# Altium integrated library micro-siemens.IntLib: 88 symbols (part 3 of 3)
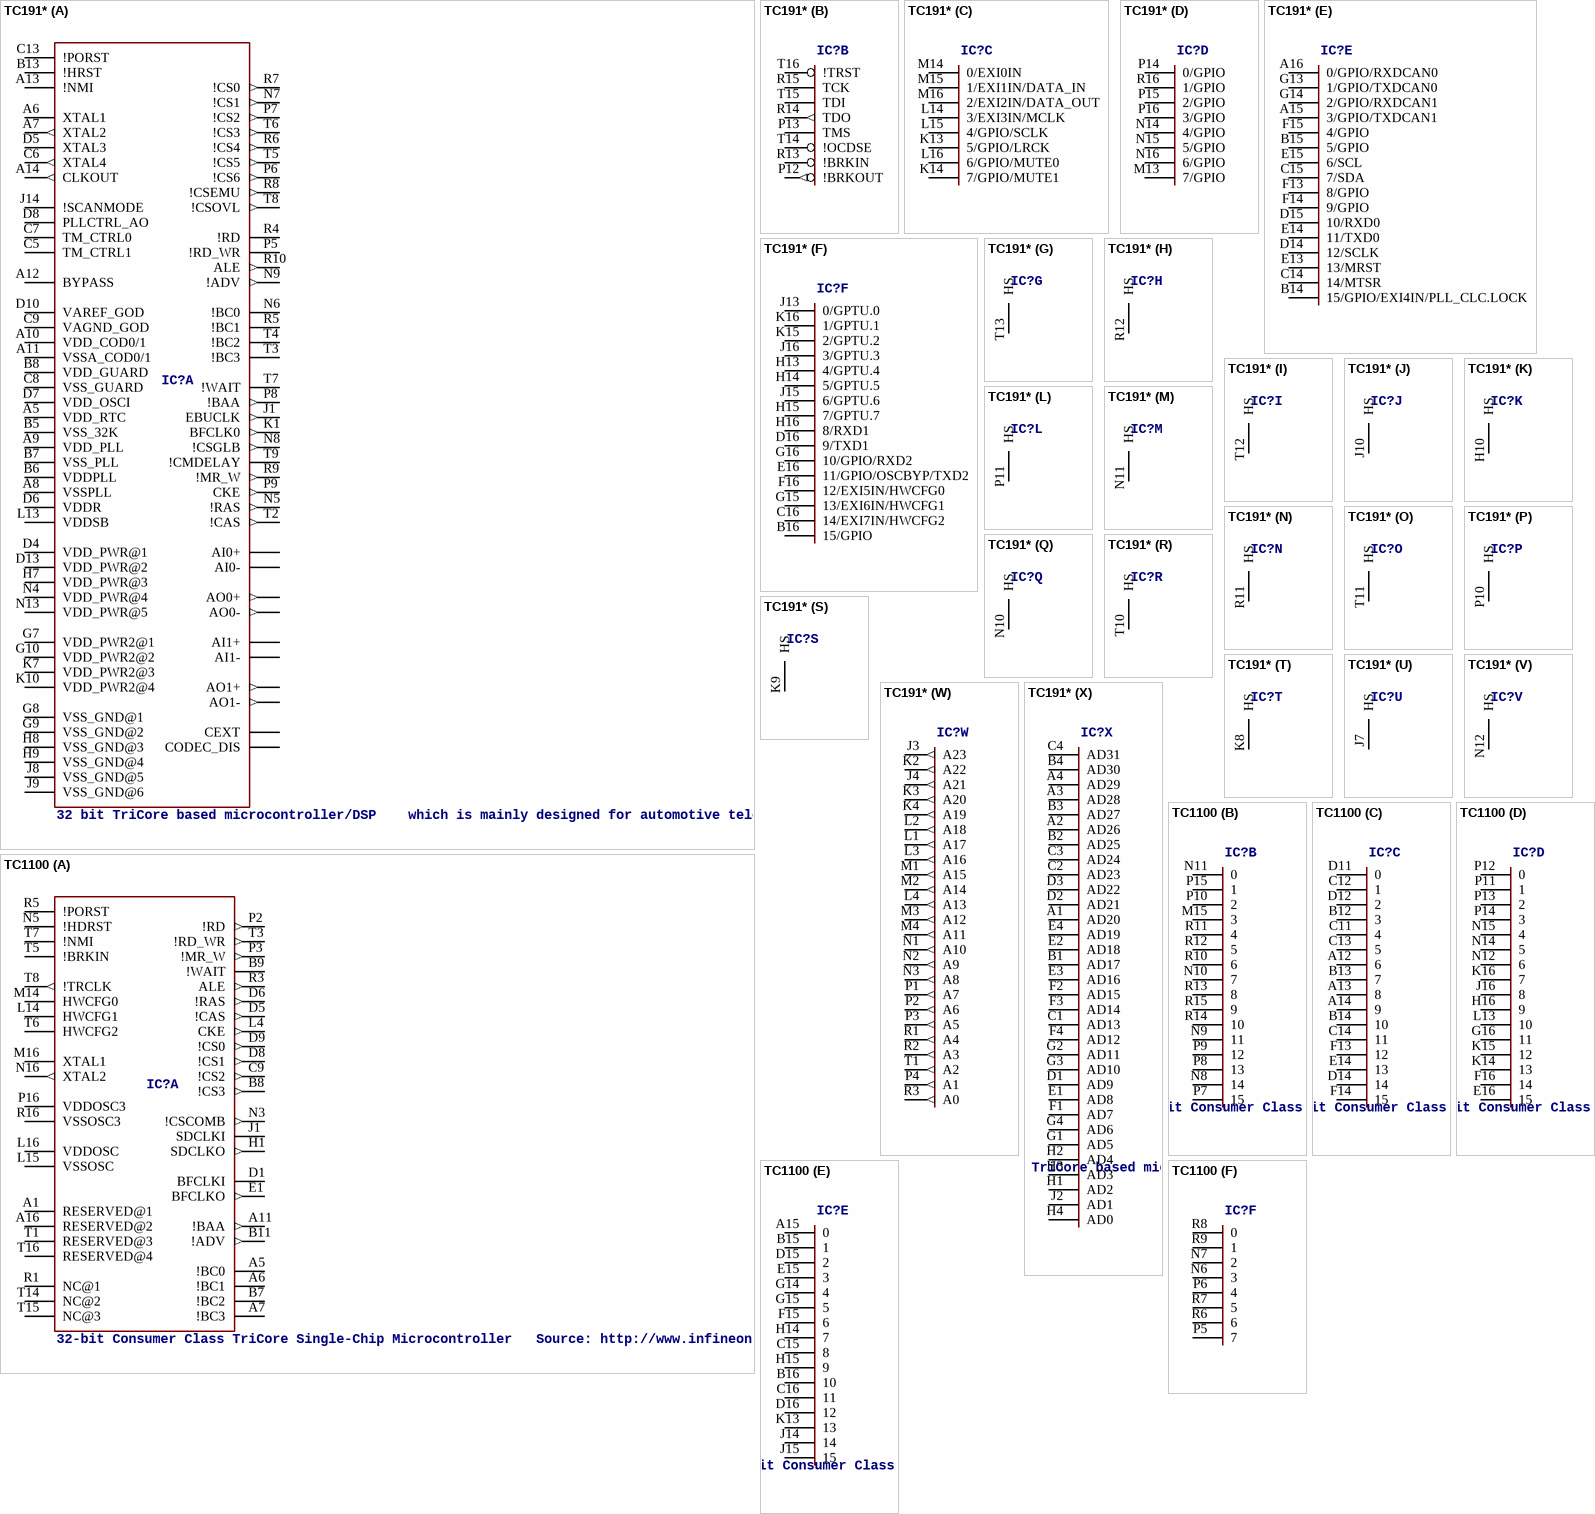
[diagram p31: symbols TC191* to TC1100]

## TC191*
designator IC?, comment 32 bit TriCore based microcontroller/DSP    which is mainly designed for automotive telematics applications. Source: http://www.infineon.com .. TC1910_DS_V1.0.pdf / TC1912_DS_V1.0.pdf
OC_FARNELL: unknown; OC_NEWARK: unknown
footprint P-LBGA-208-2
part A pins: A5 VDD_RTC, A6 XTAL1, A7 XTAL2 (out), A8 VSSPLL, A9 VDD_PLL, A10 VDD_COD0/1, A11 VSSA_COD0/1, A12 BYPASS, A13 !NMI, A14 CLKOUT (out), B5 VSS_32K, B6 VDDPLL, B7 VSS_PLL, B8 VDD_GUARD, B9 AI0-, B10 AI1-, B11 AO1+ (out), B12 AO0- (out), B13 !HRST, C5 TM_CTRL1, C6 XTAL4 (out), C7 TM_CTRL0, C8 VSS_GUARD, C9 VAGND_GOD, C10 AI1+, C11 AO0+ (out), C12 CODEC_DIS, C13 !PORST, D4 VDD_PWR@1, D5 XTAL3, D6 VDDR, D7 VDD_OSCI, D8 PLLCTRL_AO, D9 AI0+, D10 VAREF_GOD, D11 AO1- (out), D12 CEXT, D13 VDD_PWR@2, G7 VDD_PWR2@1, G8 VSS_GND@1, G9 VSS_GND@2, G10 VDD_PWR2@2, H7 VDD_PWR@3, H8 VSS_GND@3, H9 VSS_GND@4, J1 EBUCLK (out), J8 VSS_GND@5, J9 VSS_GND@6, J14 !SCANMODE, K1 BFCLK0 (out), K7 VDD_PWR2@3, K10 VDD_PWR2@4, L13 VDDSB, N4 VDD_PWR@4, N5 !RAS (out), N6 !BC0, N7 !CS1 (out), N8 !CSGLB (out), N9 !ADV (out), N13 VDD_PWR@5, P5 !RD_WR, P6 !CS6 (out), P7 !CS2 (out), P8 !BAA (out), P9 CKE (out), R4 !RD, R5 !BC1, R6 !CS4 (out), R7 !CS0 (out), R8 !CSEMU (out), R9 !MR_W (out), R10 ALE (out), T2 !CAS (out), T3 !BC3, T4 !BC2, T5 !CS5 (out), T6 !CS3 (out), T7 !WAIT, T8 !CSOVL (out), T9 !CMDELAY
part B pins: P12 !BRKOUT (out), P13 TMS, R13 !BRKIN, R14 TDO (out), R15 TCK, T14 !OCDSE, T15 TDI, T16 !TRST
part C pins: K13 5/GPIO/LRCK, K14 7/GPIO/MUTE1, L14 3/EXI3IN/MCLK, L15 4/GPIO/SCLK, L16 6/GPIO/MUTE0, M14 0/EXI0IN, M15 1/EXI1IN/DATA_IN, M16 2/EXI2IN/DATA_OUT
part D pins: M13 7/GPIO, N14 4/GPIO, N15 5/GPIO, N16 6/GPIO, P14 0/GPIO, P15 2/GPIO, P16 3/GPIO, R16 1/GPIO
part E pins: A15 3/GPIO/TXDCAN1, A16 0/GPIO/RXDCAN0, B14 15/GPIO/EXI4IN/PLL_CLC.LOCK, B15 5/GPIO, C14 14/MTSR, C15 7/SDA, D14 12/SCLK, D15 10/RXD0, E13 13/MRST, E14 11/TXD0, E15 6/SCL, F13 8/GPIO, F14 9/GPIO, F15 4/GPIO, G13 1/GPIO/TXDCAN0, G14 2/GPIO/RXDCAN1
part F pins: B16 15/GPIO, C16 14/EXI7IN/HWCFG2, D16 9/TXD1, E16 11/GPIO/OSCBYP/TXD2, F16 12/EXI5IN/HWCFG0, G15 13/EXI6IN/HWCFG1, G16 10/GPIO/RXD2, H13 4/GPTU.4, H14 5/GPTU.5, H15 7/GPTU.7, H16 8/RXD1, J13 0/GPTU.0, J15 6/GPTU.6, J16 3/GPTU.3, K15 2/GPTU.2, K16 1/GPTU.1
part G pins: T13 HS
part H pins: R12 HS
part I pins: T12 HS
part J pins: J10 HS
part K pins: H10 HS
part L pins: P11 HS
part M pins: N11 HS
part N pins: R11 HS
part O pins: T11 HS
part P pins: P10 HS
part Q pins: N10 HS
part R pins: T10 HS
part S pins: K9 HS
part T pins: K8 HS
part U pins: J7 HS
part V pins: N12 HS
part W pins: J3 A23 (out), J4 A21 (out), K2 A22 (out), K3 A20 (out), K4 A19 (out), L1 A17 (out), L2 A18 (out), L3 A16 (out), L4 A13 (out), M1 A15 (out), M2 A14 (out), M3 A12 (out), M4 A11 (out), N1 A10 (out), N2 A9 (out), N3 A8 (out), P1 A7 (out), P2 A6 (out), P3 A5 (out), P4 A1 (out), R1 A4 (out), R2 A3 (out), R3 A0 (out), T1 A2 (out)
part X pins: A1 AD20, A2 AD26, A3 AD28, A4 AD29, B1 AD17, B2 AD25, B3 AD27, B4 AD30, C1 AD13, C2 AD23, C3 AD24, C4 AD31, D1 AD9, D2 AD21, D3 AD22, E1 AD8, E2 AD18, E3 AD16, E4 AD19, F1 AD7, F2 AD15, F3 AD14, F4 AD12, G1 AD5, G2 AD11, G3 AD10, G4 AD6, H1 AD2, H2 AD4, H3 AD3, H4 AD0, J2 AD1

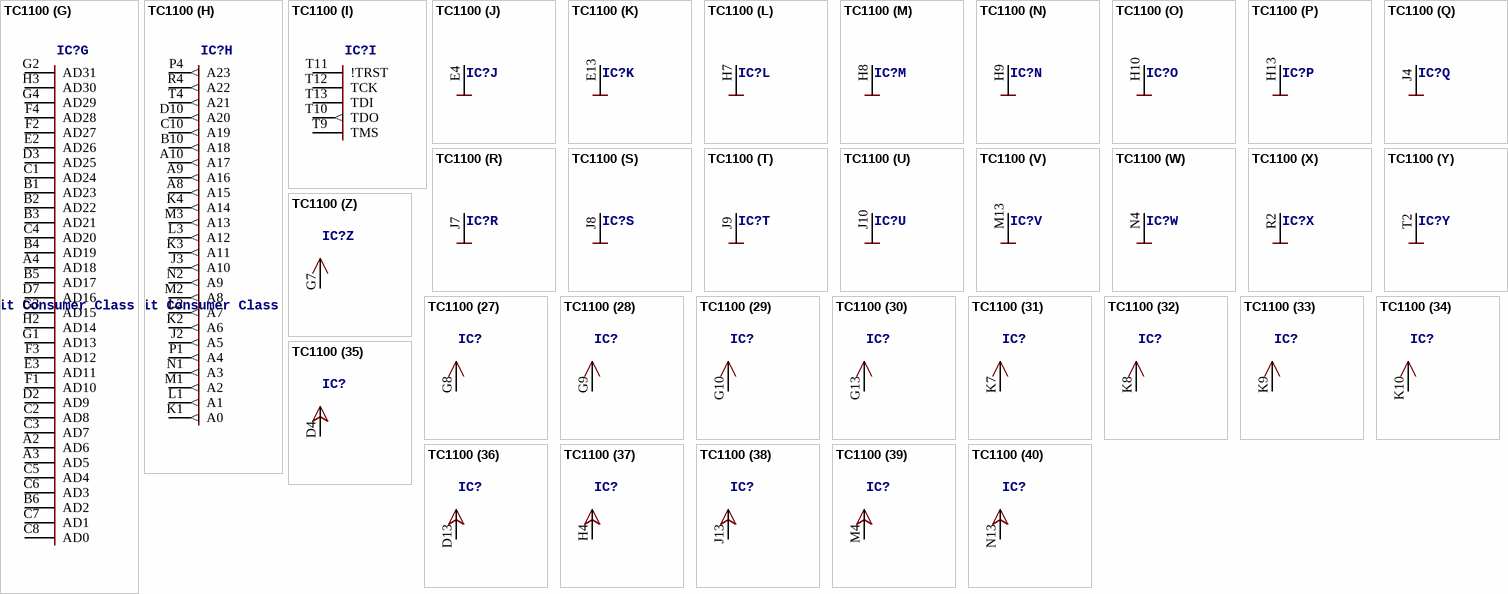
[diagram p22: symbol TC1100]

## TC1100
designator IC?, comment 32-bit Consumer Class TriCore Single-Chip Microcontroller   Source: http://www.infineon.com/cmc_upload/documents/010/9915/TC1100_umsu_v10.pdf
OC_FARNELL: unknown; OC_NEWARK: unknown
footprint P-LBGA-208-2
part A pins: A1 RESERVED@1, A5 !BC0, A6 !BC1, A7 !BC3, A11 !BAA (out), A16 RESERVED@2, B7 !BC2, B8 !CS3 (out), B9 !WAIT, B11 !ADV (out), C9 !CS2 (out), D1 BFCLKI, D5 !CAS (out), D6 !RAS (out), D8 !CS1 (out), D9 !CS0 (out), E1 BFCLKO (out), H1 SDCLKO (out), J1 SDCLKI, L4 CKE (out), L14 HWCFG1, L15 VSSOSC, L16 VDDOSC, M14 HWCFG0, M16 XTAL1, N3 !CSCOMB (out), N5 !HDRST, N16 XTAL2 (out), P2 !RD (out), P3 !MR_W (out), P16 VDDOSC3, R1 NC@1, R3 ALE (out), R5 !PORST, R16 VSSOSC3, T1 RESERVED@3, T3 !RD_WR (out), T5 !BRKIN, T6 HWCFG2, T7 !NMI, T8 !TRCLK (out), T14 NC@2, T15 NC@3, T16 RESERVED@4
part B pins: M15 3, N8 14, N9 11, N10 7, N11 0, P7 15, P8 13, P9 12, P10 2, P15 1, R10 6, R11 4, R12 5, R13 8, R14 10, R15 9
part C pins: A12 6, A13 8, A14 9, B12 3, B13 7, B14 10, C11 4, C12 1, C13 5, C14 11, D11 0, D12 2, D14 14, E14 13, F13 12, F14 15
part D pins: E16 15, F16 14, G16 11, H16 9, J16 8, K14 13, K15 12, K16 7, L13 10, N12 6, N14 5, N15 4, P11 1, P12 0, P13 2, P14 3
part E pins: A15 0, B15 1, B16 10, C15 8, C16 11, D15 2, D16 12, E15 3, F15 6, G14 4, G15 5, H14 7, H15 9, J14 14, J15 15, K13 13
part F pins: N6 3, N7 2, P5 7, P6 4, R6 6, R7 5, R8 0, R9 1
part G pins: A2 AD6, A3 AD5, A4 AD18, B1 AD23, B2 AD22, B3 AD21, B4 AD19, B5 AD17, B6 AD2, C1 AD24, C2 AD8, C3 AD7, C4 AD20, C5 AD4, C6 AD3, C7 AD1, C8 AD0, D2 AD9, D3 AD25, D7 AD16, E2 AD26, E3 AD11, F1 AD10, F2 AD27, F3 AD12, F4 AD28, G1 AD13, G2 AD31, G3 AD15, G4 AD29, H2 AD14, H3 AD30
part H pins: A8 A15 (out), A9 A16 (out), A10 A17 (out), B10 A18 (out), C10 A19 (out), D10 A20 (out), J2 A5 (out), J3 A10 (out), K1 A0 (out), K2 A6 (out), K3 A11 (out), K4 A14 (out), L1 A1 (out), L2 A7 (out), L3 A12 (out), M1 A2 (out), M2 A8 (out), M3 A13 (out), N1 A3 (out), N2 A9 (out), P1 A4 (out), P4 A23 (out), R4 A22 (out), T4 A21 (out)
part I pins: T9 TMS, T10 TDO (out), T11 !TRST, T12 TCK, T13 TDI
part J pins: E4 VSS (power)
part K pins: E13 VSS (power)
part L pins: H7 VSS (power)
part M pins: H8 VSS (power)
part N pins: H9 VSS (power)
part O pins: H10 VSS (power)
part P pins: H13 VSS (power)
part Q pins: J4 VSS (power)
part R pins: J7 VSS (power)
part S pins: J8 VSS (power)
part T pins: J9 VSS (power)
part U pins: J10 VSS (power)
part V pins: M13 VSS (power)
part W pins: N4 VSS (power)
part X pins: R2 VSS (power)
part Y pins: T2 VSS (power)
part Z pins: G7 VDD (power)
part 27 pins: G8 VDD (power)
part 28 pins: G9 VDD (power)
part 29 pins: G10 VDD (power)
part 30 pins: G13 VDD (power)
part 31 pins: K7 VDD (power)
part 32 pins: K8 VDD (power)
part 33 pins: K9 VDD (power)
part 34 pins: K10 VDD (power)
part 35 pins: D4 VDDP (power)
part 36 pins: D13 VDDP (power)
part 37 pins: H4 VDDP (power)
part 38 pins: J13 VDDP (power)
part 39 pins: M4 VDDP (power)
part 40 pins: N13 VDDP (power)

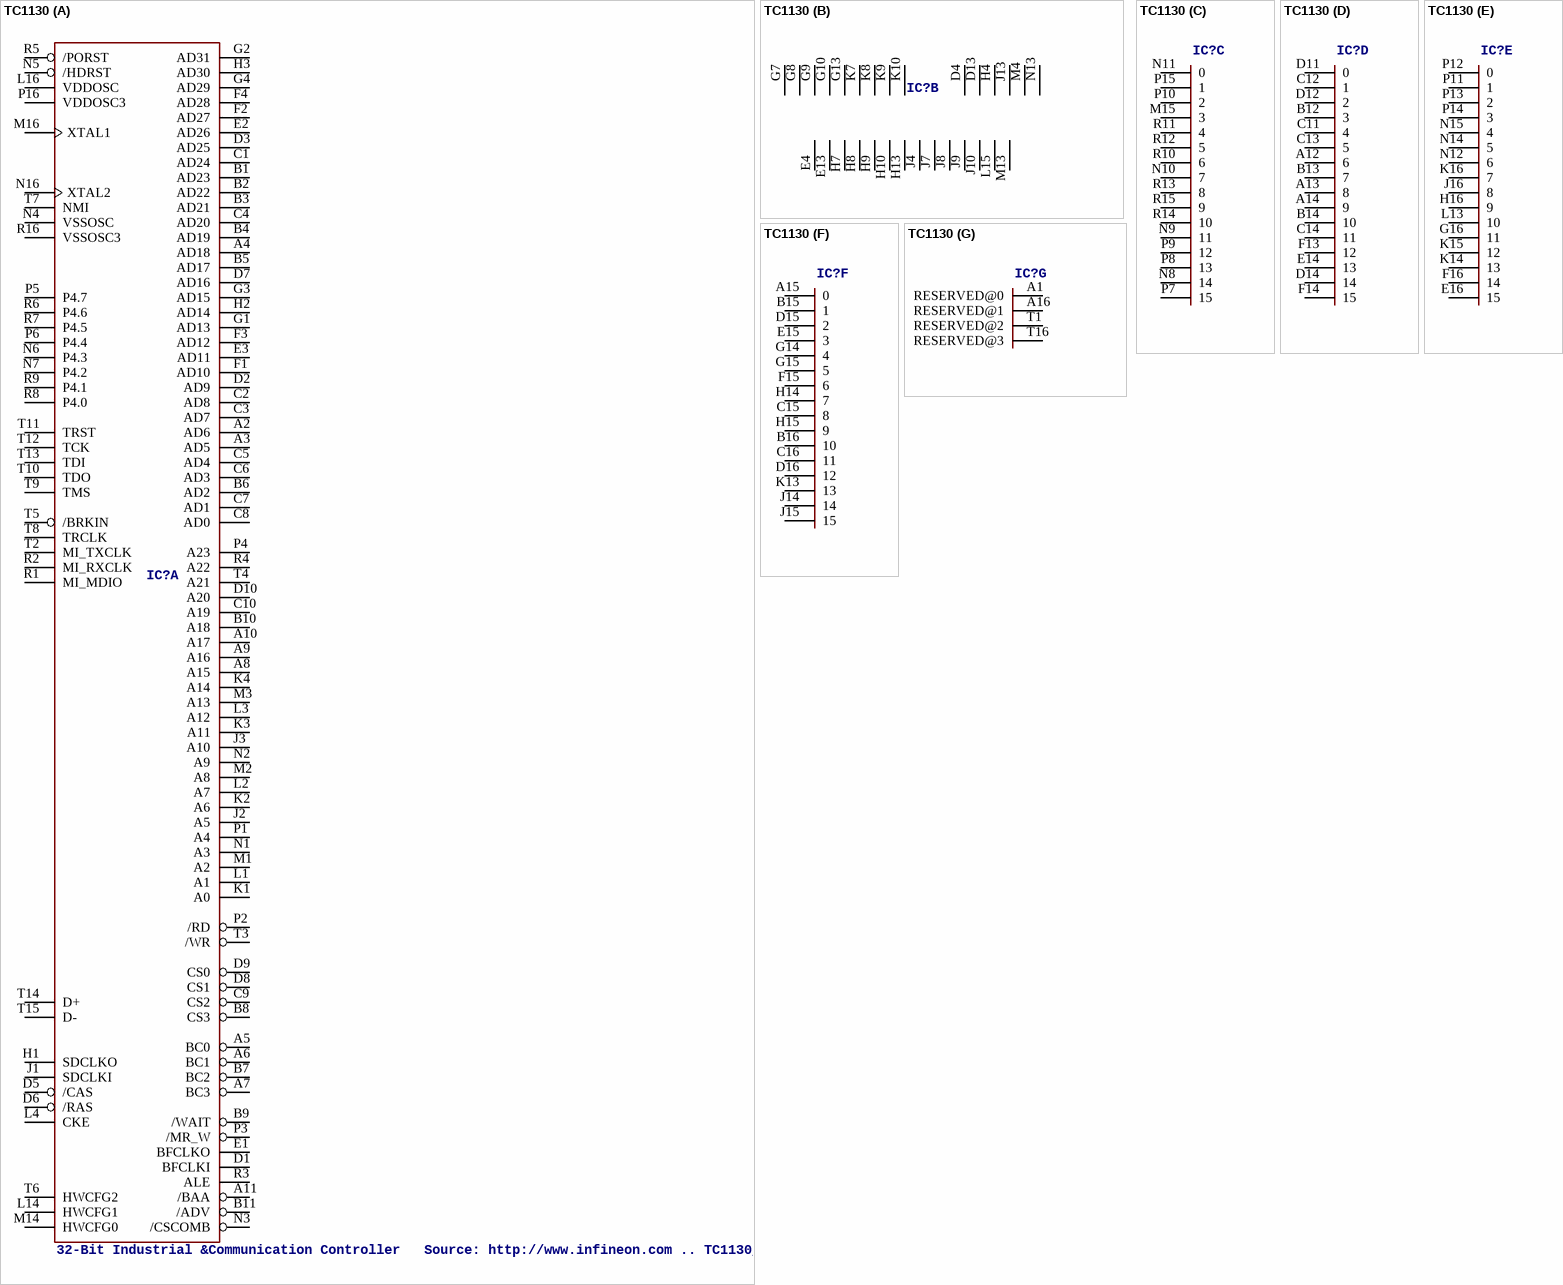
[diagram p23: symbol TC1130]

## TC1130
designator IC?, comment 32-Bit Industrial &Communication Controller   Source: http://www.infineon.com .. TC1130_DS_v031.pdf
OC_FARNELL: unknown; OC_NEWARK: unknown
footprint P-LBGA-208-2
part A pins: A2 AD6, A3 AD5, A4 AD18, A5 BC0, A6 BC1, A7 BC3, A8 A15, A9 A16, A10 A17, A11 /BAA, B1 AD23, B2 AD22, B3 AD21, B4 AD19, B5 AD17, B6 AD2, B7 BC2, B8 CS3, B9 /WAIT, B10 A18, B11 /ADV, C1 AD24, C2 AD8, C3 AD7, C4 AD20, C5 AD4, C6 AD3, C7 AD1, C8 AD0, C9 CS2, C10 A19, D1 BFCLKI, D2 AD9, D3 AD25, D5 /CAS, D6 /RAS, D7 AD16, D8 CS1, D9 CS0, D10 A20, E1 BFCLKO, E2 AD26, E3 AD11, F1 AD10, F2 AD27, F3 AD12, F4 AD28, G1 AD13, G2 AD31, G3 AD15, G4 AD29, H1 SDCLKO, H2 AD14, H3 AD30, J1 SDCLKI, J2 A5, J3 A10, K1 A0, K2 A6, K3 A11, K4 A14, L1 A1, L2 A7, L3 A12, L4 CKE, L14 HWCFG1, L16 VDDOSC, M1 A2, M2 A8, M3 A13, M14 HWCFG0, M16 XTAL1, N1 A3, N2 A9, N3 /CSCOMB, N4 VSSOSC, N5 /HDRST, N6 P4.3, N7 P4.2, N16 XTAL2, P1 A4, P2 /RD, P3 /MR_W, P4 A23, P5 P4.7, P6 P4.4, P16 VDDOSC3, R1 MI_MDIO, R2 MI_RXCLK, R3 ALE, R4 A22, R5 /PORST, R6 P4.6, R7 P4.5, R8 P4.0, R9 P4.1, R16 VSSOSC3, T2 MI_TXCLK, T3 /WR, T4 A21, T5 /BRKIN, T6 HWCFG2, T7 NMI, T8 TRCLK, T9 TMS, T10 TDO, T11 TRST, T12 TCK, T13 TDI, T14 D+, T15 D-
part B pins: D4 VDDP@0 (power), D13 VDDP@1 (power), E4 VSS@0 (power), E13 VSS@1 (power), G7 VDD@0 (power), G8 VDD@1 (power), G9 VDD@2 (power), G10 VDD@3 (power), G13 VDD@4 (power), H4 VDDP@2 (power), H7 VSS@2 (power), H8 VSS@3 (power), H9 VSS@4 (power), H10 VSS@5 (power), H13 VSS@6 (power), J4 VSS@7 (power), J7 VSS@8 (power), J8 VSS@9 (power), J9 VSS@10 (power), J10 VSS@11 (power), J13 VDDP@3 (power), K7 VDD@5 (power), K8 VDD@6 (power), K9 VDD@7 (power), K10 VDD@8 (power), L15 VSS@12 (power), M4 VDDP@4 (power), M13 VSS@13 (power), N13 VDDP@5 (power)
part C pins: M15 3, N8 14, N9 11, N10 7, N11 0, P7 15, P8 13, P9 12, P10 2, P15 1, R10 6, R11 4, R12 5, R13 8, R14 10, R15 9
part D pins: A12 6, A13 8, A14 9, B12 3, B13 7, B14 10, C11 4, C12 1, C13 5, C14 11, D11 0, D12 2, D14 14, E14 13, F13 12, F14 15
part E pins: E16 15, F16 14, G16 11, H16 9, J16 8, K14 13, K15 12, K16 7, L13 10, N12 6, N14 5, N15 4, P11 1, P12 0, P13 2, P14 3
part F pins: A15 0, B15 1, B16 10, C15 8, C16 11, D15 2, D16 12, E15 3, F15 6, G14 4, G15 5, H14 7, H15 9, J14 14, J15 15, K13 13
part G pins: A1 RESERVED@0, A16 RESERVED@1, T1 RESERVED@2, T16 RESERVED@3

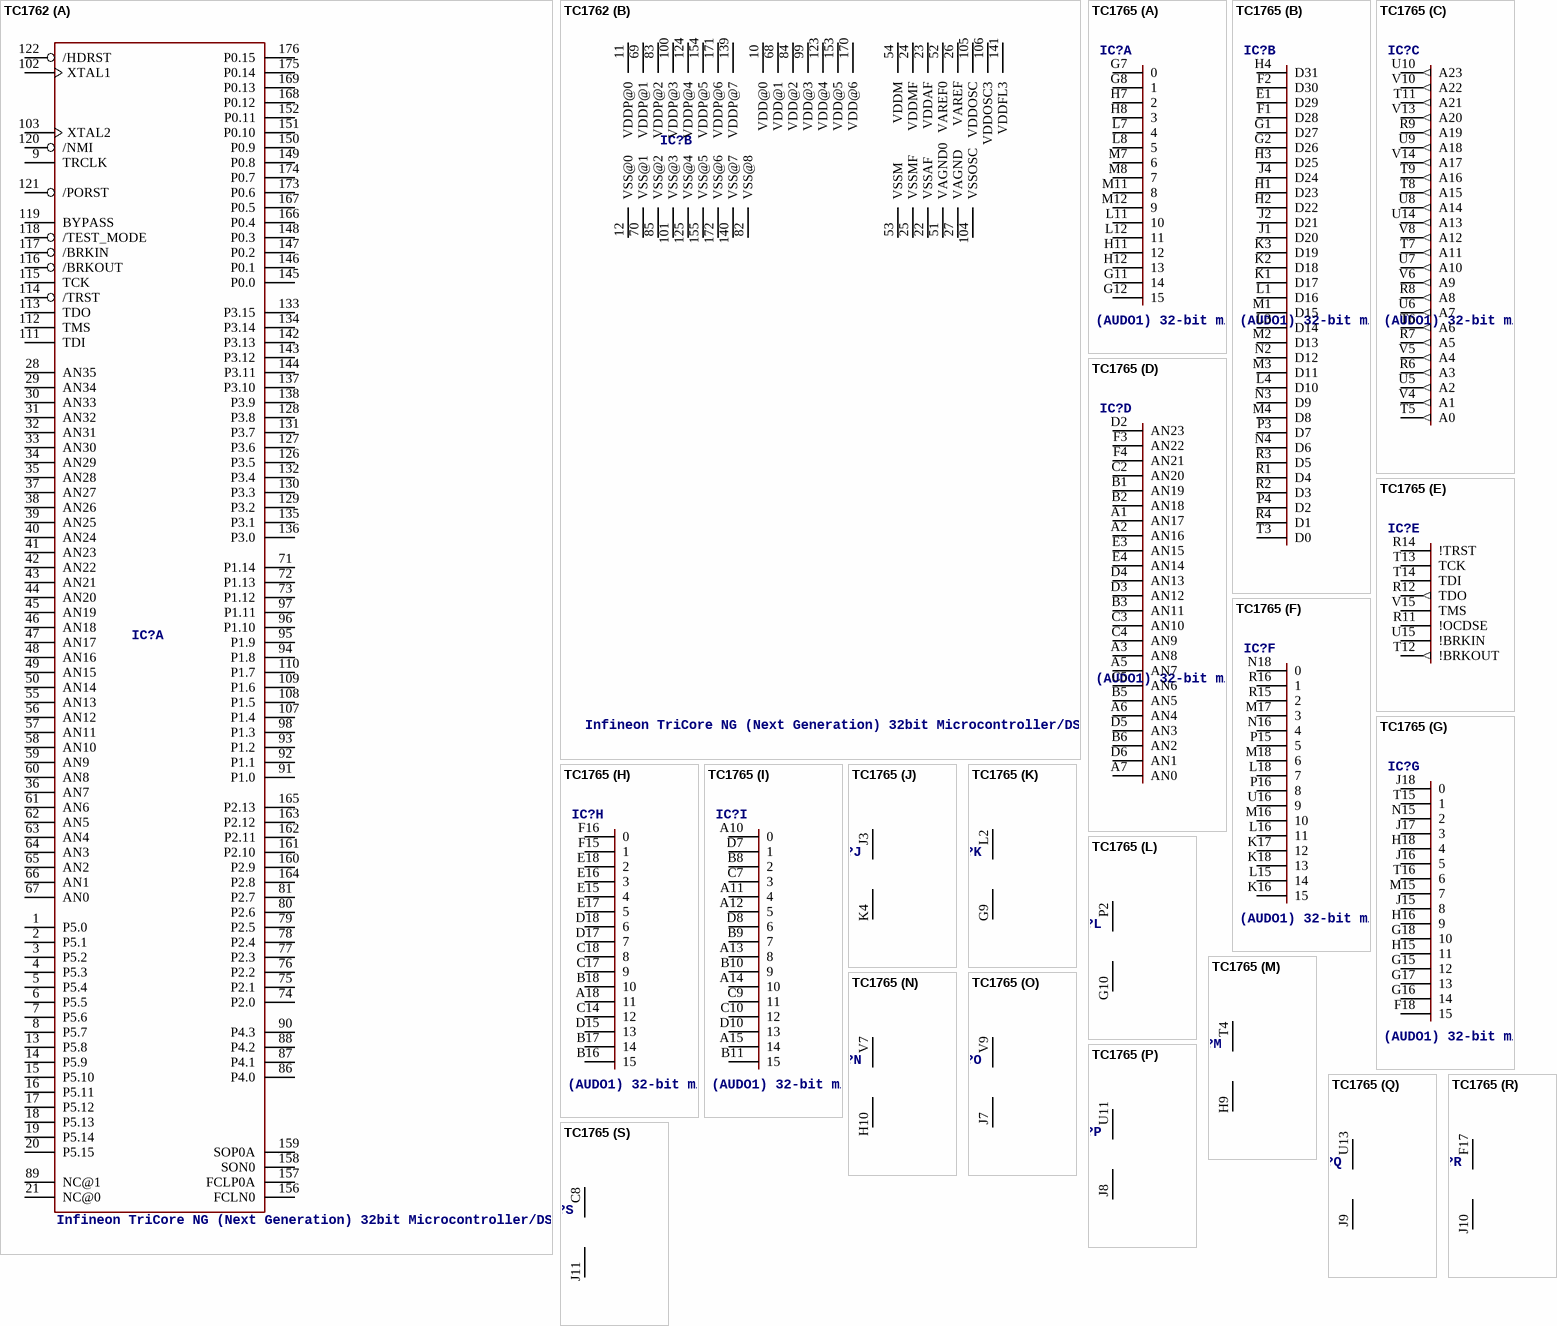
[diagram p24: symbols TC1762 to TC1765]

## TC1762
designator IC?, comment Infineon TriCore NG (Next Generation) 32bit Microcontroller/DSP
OC_FARNELL: unknown; OC_NEWARK: unknown
footprint P-LQFP-176-2
part A pins: 1 P5.0, 2 P5.1, 3 P5.2, 4 P5.3, 5 P5.4, 6 P5.5, 7 P5.6, 8 P5.7, 9 TRCLK, 13 P5.8, 14 P5.9, 15 P5.10, 16 P5.11, 17 P5.12, 18 P5.13, 19 P5.14, 20 P5.15, 21 NC@0, 28 AN35, 29 AN34, 30 AN33, 31 AN32, 32 AN31, 33 AN30, 34 AN29, 35 AN28, 36 AN7, 37 AN27, 38 AN26, 39 AN25, 40 AN24, 41 AN23, 42 AN22, 43 AN21, 44 AN20, 45 AN19, 46 AN18, 47 AN17, 48 AN16, 49 AN15, 50 AN14, 55 AN13, 56 AN12, 57 AN11, 58 AN10, 59 AN9, 60 AN8, 61 AN6, 62 AN5, 63 AN4, 64 AN3, 65 AN2, 66 AN1, 67 AN0, 71 P1.14, 72 P1.13, 73 P1.12, 74 P2.0, 75 P2.1, 76 P2.2, 77 P2.3, 78 P2.4, 79 P2.5, 80 P2.6, 81 P2.7, 86 P4.0, 87 P4.1, 88 P4.2, 89 NC@1, 90 P4.3, 91 P1.0, 92 P1.1, 93 P1.2, 94 P1.8, 95 P1.9, 96 P1.10, 97 P1.11, 98 P1.3, 102 XTAL1, 103 XTAL2, 107 P1.4, 108 P1.5, 109 P1.6, 110 P1.7, 111 TDI, 112 TMS, 113 TDO, 114 /TRST, 115 TCK, 116 /BRKOUT, 117 /BRKIN, 118 /TEST_MODE, 119 BYPASS, 120 /NMI, 121 /PORST, 122 /HDRST, 126 P3.5, 127 P3.6, 128 P3.8, 129 P3.2, 130 P3.3, 131 P3.7, 132 P3.4, 133 P3.15, 134 P3.14, 135 P3.1, 136 P3.0, 137 P3.10, 138 P3.9, 142 P3.13, 143 P3.12, 144 P3.11, 145 P0.0, 146 P0.1, 147 P0.2, 148 P0.3, 149 P0.8, 150 P0.9, 151 P0.10, 152 P0.11, 156 FCLN0, 157 FCLP0A, 158 SON0, 159 SOP0A, 160 P2.9, 161 P2.10, 162 P2.11, 163 P2.12, 164 P2.8, 165 P2.13, 166 P0.4, 167 P0.5, 168 P0.12, 169 P0.13, 173 P0.6, 174 P0.7, 175 P0.14, 176 P0.15
part B pins: 10 VDD@0 (power), 11 VDDP@0 (power), 12 VSS@0 (power), 22 VSSAF (power), 23 VDDAF (power), 24 VDDMF (power), 25 VSSMF (power), 26 VAREF (power), 27 VAGND (power), 51 VAGND0 (power), 52 VAREF0 (power), 53 VSSM (power), 54 VDDM (power), 68 VDD@1 (power), 69 VDDP@1 (power), 70 VSS@1 (power), 82 VSS@8 (power), 83 VDDP@2 (power), 84 VDD@2 (power), 85 VSS@2 (power), 99 VDD@3 (power), 100 VDDP@3 (power), 101 VSS@3 (power), 104 VSSOSC (power), 105 VDDOSC (power), 106 VDDOSC3 (power), 123 VDD@4 (power), 124 VDDP@4 (power), 125 VSS@4 (power), 139 VDDP@7 (power), 140 VSS@7 (power), 141 VDDFL3 (power), 153 VDD@5 (power), 154 VDDP@5 (power), 155 VSS@5 (power), 170 VDD@6 (power), 171 VDDP@6 (power), 172 VSS@6 (power)

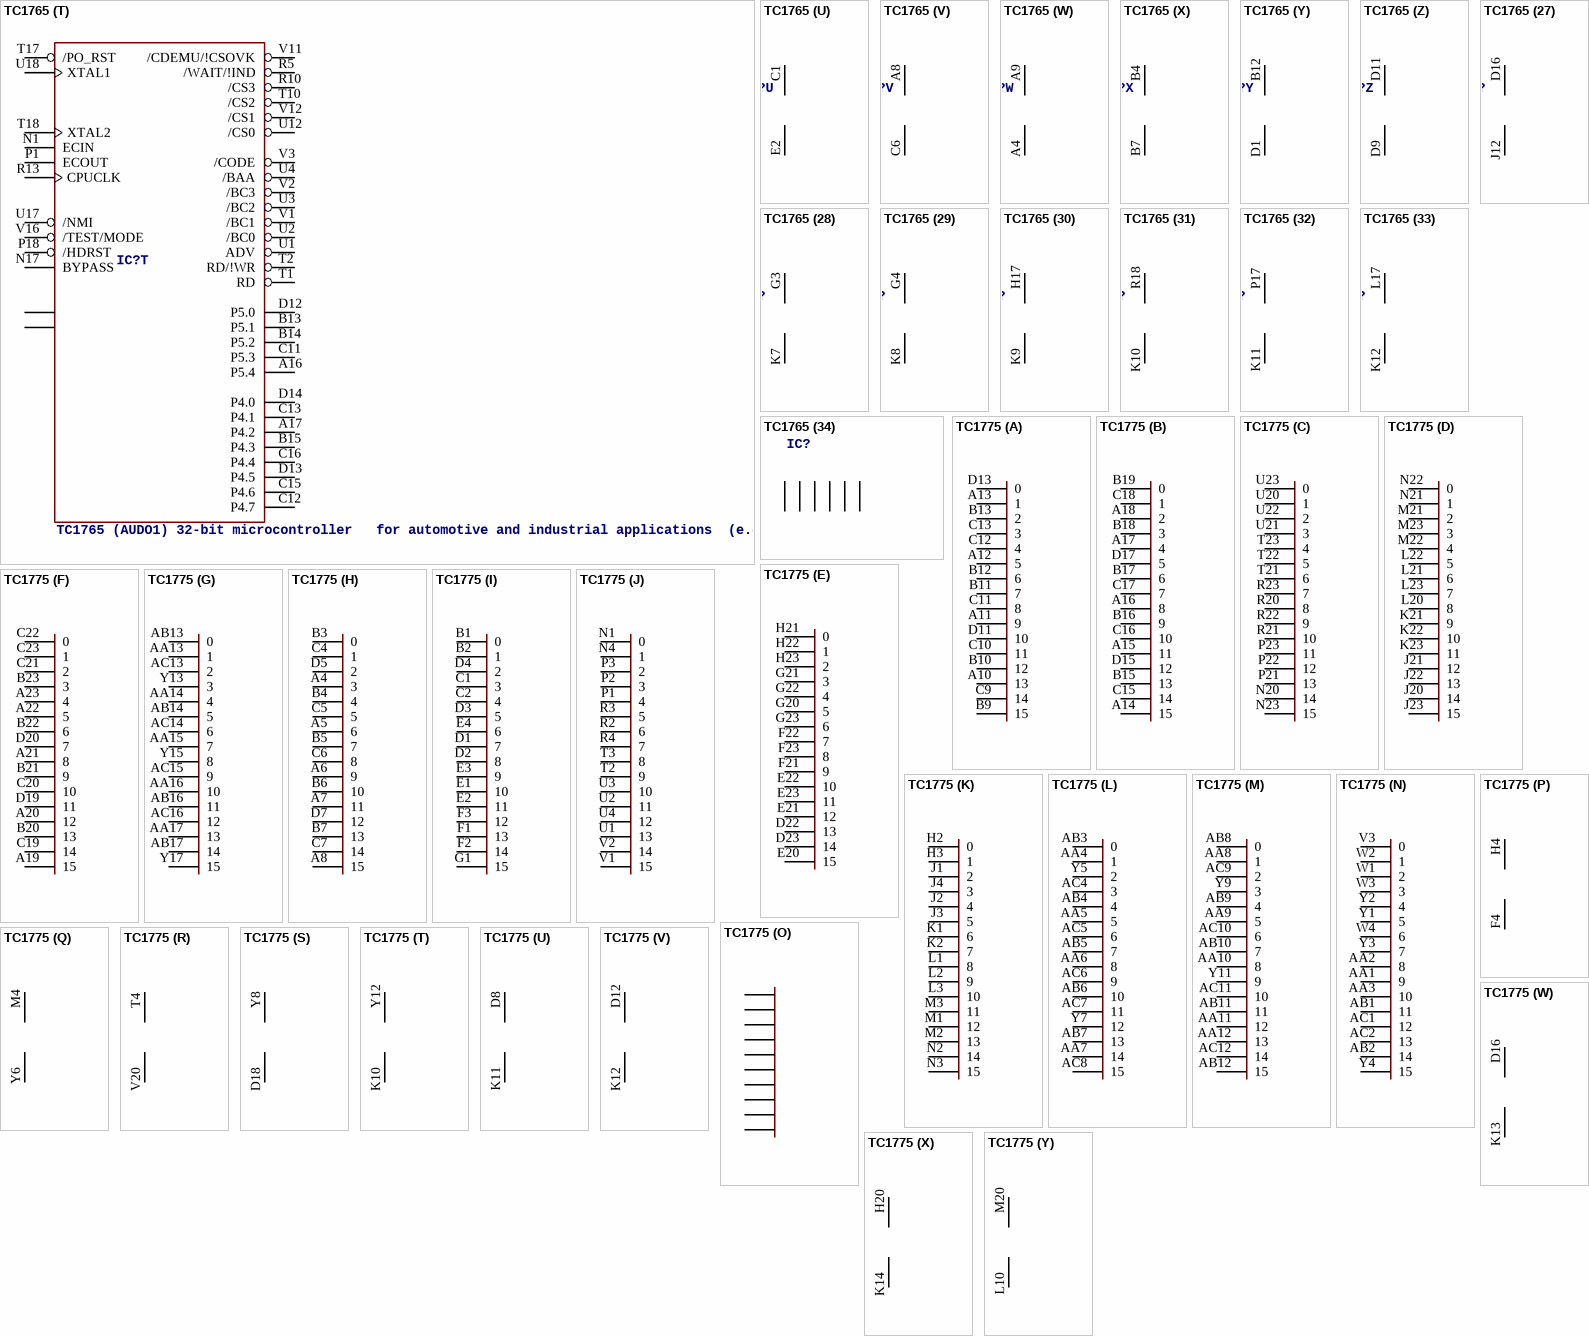
[diagram p25: symbols TC1765 to TC1775]

## TC1765
designator IC?, comment TC1765 (AUDO1) 32-bit microcontroller   for automotive and industrial applications  (e.g. engine management, transmission, starter generator or 3-phase motor control) Source: http://www.infineon.com ..
OC_FARNELL: unknown; OC_NEWARK: unknown
footprint P-LBGA-260
part A pins: G7 0, G8 1, G11 14, G12 15, H7 2, H8 3, H11 12, H12 13, L7 4, L8 5, L11 10, L12 11, M7 6, M8 7, M11 8, M12 9
part B pins: E1 D29, F1 D28, F2 D30, G1 D27, G2 D26, H1 D23, H2 D22, H3 D25, H4 D31, J1 D20, J2 D21, J4 D24, K1 D17, K2 D18, K3 D19, L1 D16, L3 D14, L4 D10, M1 D15, M2 D13, M3 D11, M4 D8, N2 D12, N3 D9, N4 D6, P3 D7, P4 D2, R1 D4, R2 D3, R3 D5, R4 D1, T3 D0
part C pins: R6 A3 (out), R7 A5 (out), R8 A8 (out), R9 A19 (out), T5 A0 (out), T6 A6 (out), T7 A11 (out), T8 A15 (out), T9 A16 (out), T11 A21 (out), U5 A2 (out), U6 A7 (out), U7 A10 (out), U8 A14 (out), U9 A18 (out), U10 A23 (out), U14 A13 (out), V4 A1 (out), V5 A4 (out), V6 A9 (out), V8 A12 (out), V10 A22 (out), V13 A20 (out), V14 A17 (out)
part D pins: A1 AN17, A2 AN16, A3 AN8, A5 AN7, A6 AN4, A7 AN0, B1 AN19, B2 AN18, B3 AN11, B5 AN5, B6 AN2, C2 AN20, C3 AN10, C4 AN9, C5 AN6, D2 AN23, D3 AN12, D4 AN13, D5 AN3, D6 AN1, E3 AN15, E4 AN14, F3 AN22, F4 AN21
part E pins: R11 !OCDSE, R12 TDO (out), R14 !TRST, T12 !BRKOUT (out), T13 TCK, T14 TDI, U15 !BRKIN, V15 TMS
part F pins: K16 15, K17 12, K18 13, L15 14, L16 11, L18 7, M16 10, M17 3, M18 6, N16 4, N18 0, P15 5, P16 8, R15 2, R16 1, U16 9
part G pins: F18 15, G15 12, G16 14, G17 13, G18 10, H15 11, H16 9, H18 4, J15 8, J16 5, J17 3, J18 0, M15 7, N15 2, T15 1, T16 6
part H pins: A18 11, B16 15, B17 14, B18 10, C14 12, C17 9, C18 8, D15 13, D17 7, D18 6, E15 4, E16 3, E17 5, E18 2, F15 1, F16 0
part I pins: A10 0, A11 4, A12 5, A13 8, A14 10, A15 14, B8 2, B9 7, B10 9, B11 15, C7 3, C9 11, C10 12, D7 1, D8 6, D10 13
part J pins: J3 VDD (power), K4 VSS (power)
part K pins: G9 VSS (power), L2 VDD (power)
part L pins: G10 VSS (power), P2 VDD (power)
part M pins: H9 VSS (power), T4 VDD (power)
part N pins: H10 VSS (power), V7 VDD (power)
part O pins: J7 VSS (power), V9 VDD (power)
part P pins: J8 VSS (power), U11 VDD (power)
part Q pins: J9 VSS (power), U13 VDD (power)
part R pins: F17 VDD (power), J10 VSS (power)
part S pins: C8 VDD (power), J11 VSS (power)
part T pins: A16 P5.4, A17 P4.2, B13 P5.1, B14 P5.2, B15 P4.3, C11 P5.3, C12 P4.7, C13 P4.1, C15 P4.6, C16 P4.4, D12 P5.0, D13 P4.5, D14 P4.0, N1 ECIN, N17 BYPASS, P1 ECOUT, P18 /HDRST, R5 /WAIT/!IND, R10 /CS3, R13 CPUCLK, T1 RD, T2 RD/!WR, T10 /CS2, T17 /PO_RST, T18 XTAL2, U1 ADV, U2 /BC0, U3 /BC2, U4 /BAA, U12 /CS0, U17 /NMI, U18 XTAL1, V1 /BC1, V2 /BC3, V3 /CODE, V11 /CDEMU/!CSOVK, V12 /CS1, V16 /TEST/MODE, V17 NC@0, V18 NC@1
part U pins: C1 VDD (power), E2 VSS (power)
part V pins: A8 VDD (power), C6 VSS (power)
part W pins: A4 VSS (power), A9 VDD (power)
part X pins: B4 VDD (power), B7 VSS (power)
part Y pins: B12 VDD (power), D1 VSS (power)
part Z pins: D9 VSS (power), D11 VDD (power)
part 27 pins: D16 VDD (power), J12 VSS (power)
part 28 pins: G3 VDD (power), K7 VSS (power)
part 29 pins: G4 VDD (power), K8 VSS (power)
part 30 pins: H17 VDD (power), K9 VSS (power)
part 31 pins: K10 VSS (power), R18 VDD (power)
part 32 pins: K11 VSS (power), P17 VDD (power)
part 33 pins: K12 VSS (power), L17 VDD (power)
part 34 pins: K15 GND@0 (power), L9 GND@1 (power), L10 GND@2 (power), M9 GND@3 (power), M10 GND@4 (power), R17 GND@5 (power)

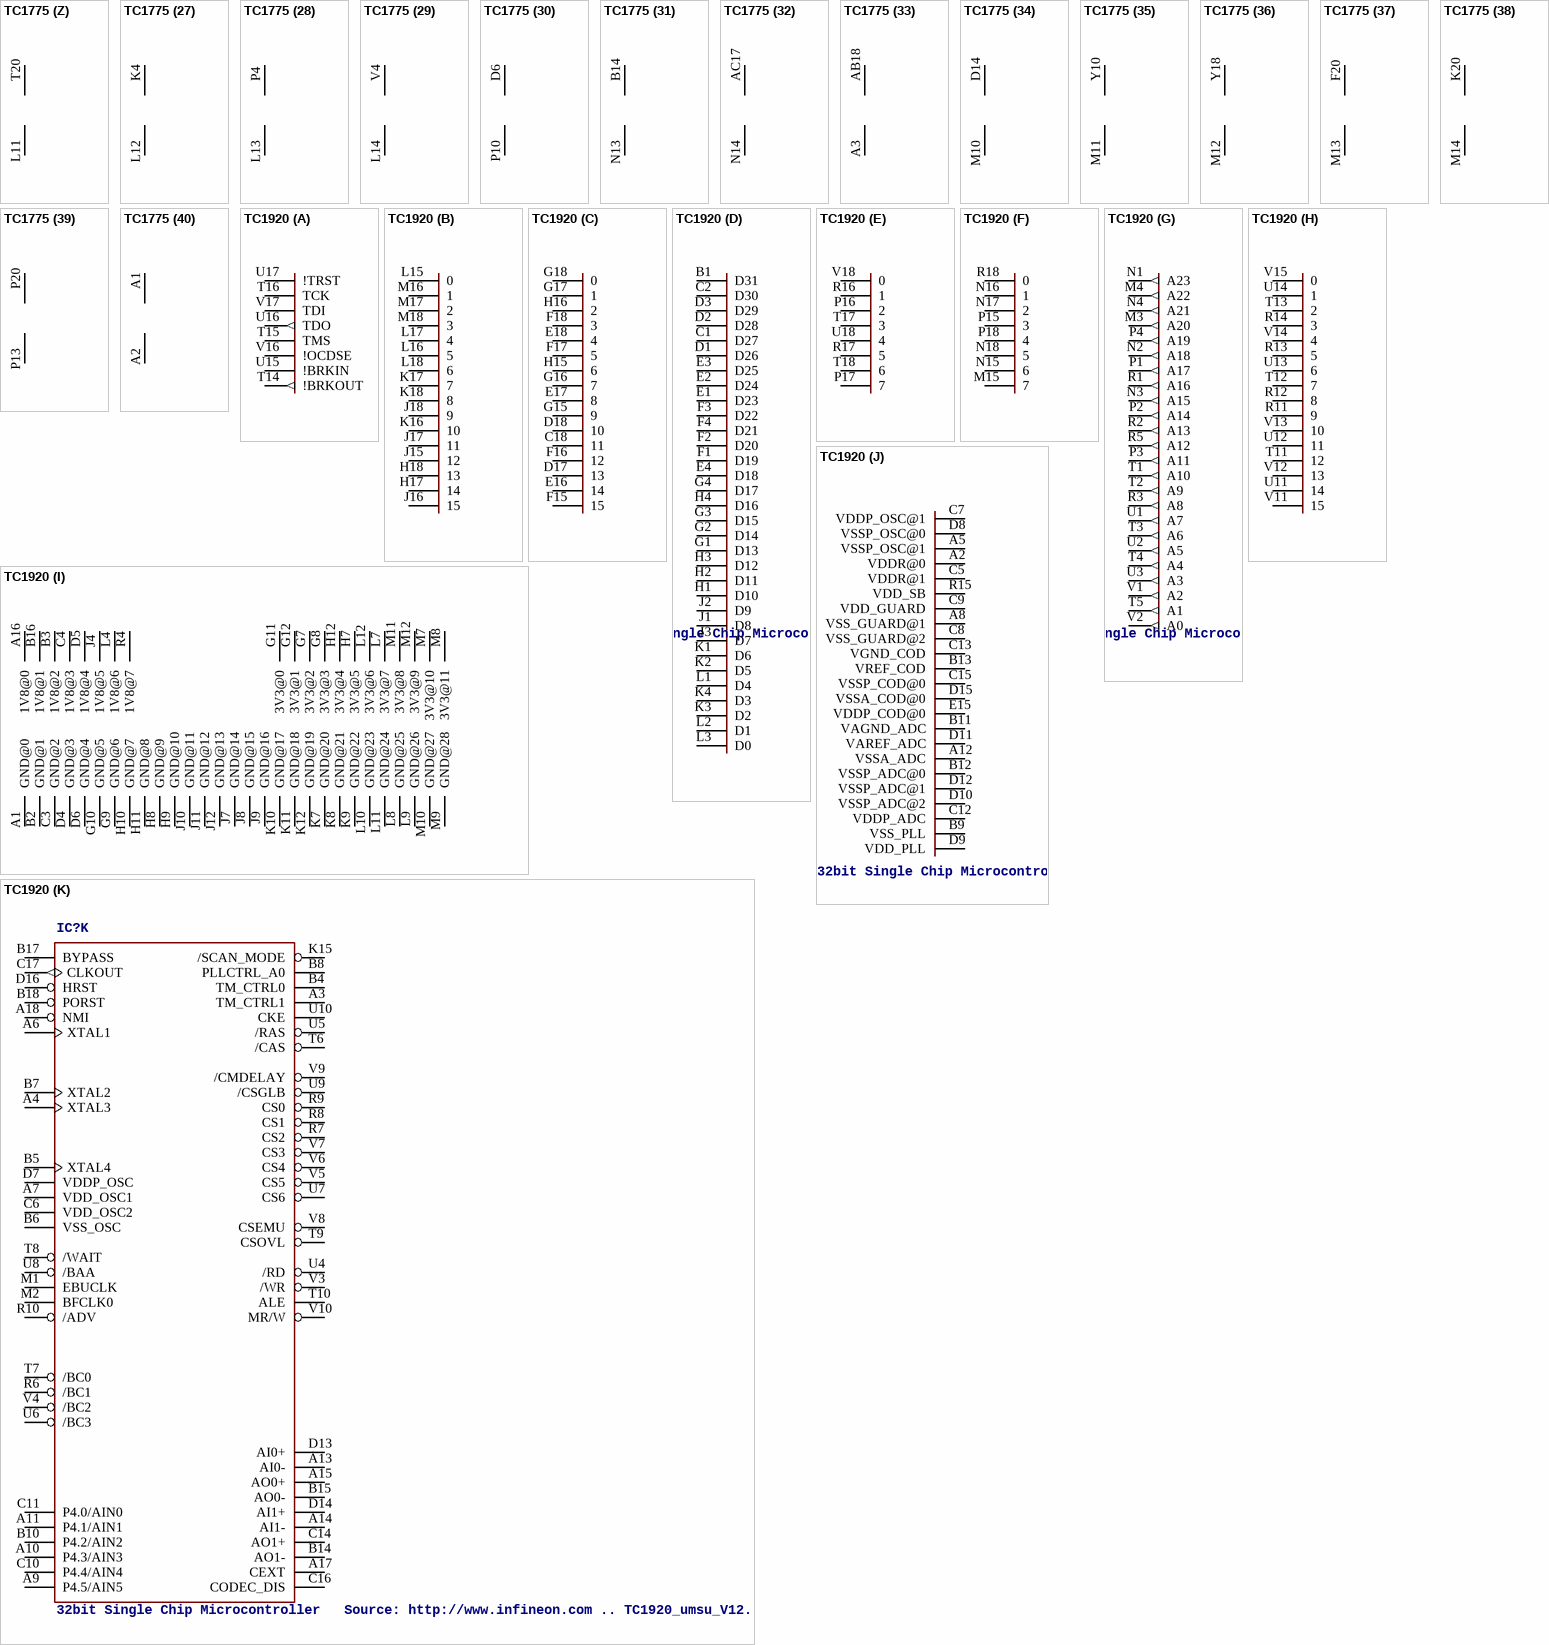
[diagram p26: symbols TC1775 to TC1920]

## TC1775
designator IC?, comment TC1775 (AUDO1) 32-bit microcontroller   for high demanding automotive and industrial applications (e.g. engine management, starter generator, 3-phase motor control or robotics)  Source: http://www.infineon.com ..
OC_FARNELL: unknown; OC_NEWARK: unknown
footprint P-BGA329
part A pins: A10 13, A11 9, A12 5, A13 1, B9 15, B10 12, B11 7, B12 6, B13 2, C9 14, C10 11, C11 8, C12 4, C13 3, D11 10, D13 0
part B pins: A14 15, A15 11, A16 8, A17 4, A18 2, B15 13, B16 9, B17 6, B18 3, B19 0, C15 14, C16 10, C17 7, C18 1, D15 12, D17 5
part C pins: N20 14, N23 15, P21 13, P22 12, P23 11, R20 8, R21 10, R22 9, R23 7, T21 6, T22 5, T23 4, U20 1, U21 3, U22 2, U23 0
part D pins: J20 14, J21 12, J22 13, J23 15, K21 9, K22 10, K23 11, L20 8, L21 6, L22 5, L23 7, M21 2, M22 4, M23 3, N21 1, N22 0
part E pins: D22 13, D23 14, E20 15, E21 12, E22 10, E23 11, F21 9, F22 7, F23 8, G20 5, G21 3, G22 4, G23 6, H21 0, H22 1, H23 2
part F pins: A19 15, A20 12, A21 8, A22 5, A23 4, B20 13, B21 9, B22 6, B23 3, C19 14, C20 10, C21 2, C22 0, C23 1, D19 11, D20 7
part G pins: AA13 1, AA14 4, AA15 7, AA16 10, AA17 13, AB13 0, AB14 5, AB16 11, AB17 14, AC13 2, AC14 6, AC15 9, AC16 12, Y13 3, Y15 8, Y17 15
part H pins: A4 3, A5 6, A6 9, A7 11, A8 15, B3 0, B4 4, B5 7, B6 10, B7 13, C4 1, C5 5, C6 8, C7 14, D5 2, D7 12
part I pins: B1 0, B2 1, C1 3, C2 4, D1 7, D2 8, D3 5, D4 2, E1 10, E2 11, E3 9, E4 6, F1 13, F2 14, F3 12, G1 15
part J pins: N1 0, N4 1, P1 4, P2 3, P3 2, R2 6, R3 5, R4 7, T2 9, T3 8, U1 13, U2 11, U3 10, U4 12, V1 15, V2 14
part K pins: H2 0, H3 1, J1 2, J2 4, J3 5, J4 3, K1 6, K2 7, L1 8, L2 9, L3 10, M1 12, M2 13, M3 11, N2 14, N3 15
part L pins: AA4 1, AA5 5, AA6 8, AA7 14, AB3 0, AB4 4, AB5 7, AB6 10, AB7 13, AC4 3, AC5 6, AC6 9, AC7 11, AC8 15, Y5 2, Y7 12
part M pins: AA8 1, AA9 5, AA10 8, AA11 12, AA12 13, AB8 0, AB9 4, AB10 7, AB11 11, AB12 15, AC9 2, AC10 6, AC11 10, AC12 14, Y9 3, Y11 9
part N pins: AA1 9, AA2 8, AA3 10, AB1 11, AB2 14, AC1 12, AC2 13, V3 0, W1 2, W2 1, W3 3, W4 6, Y1 5, Y2 4, Y3 7, Y4 15
part O pins: AB15 NC@0, AB22 NC@3, AC3 NC@6, C14 NC@4, D10 NC@1, D21 NC@8, K3 NC@5, L4 NC@7, Y14 NC@2, Y16 NC@9
part P pins: F4 VSS (power), H4 VDD (power)
part Q pins: M4 VDD (power), Y6 VSS (power)
part R pins: T4 VDD (power), V20 VSS (power)
part S pins: D18 VSS (power), Y8 VDD (power)
part T pins: K10 VSS (power), Y12 VDD (power)
part U pins: D8 VDD (power), K11 VSS (power)
part V pins: D12 VDD (power), K12 VSS (power)
part W pins: D16 VDD (power), K13 VSS (power)
part X pins: H20 VDD (power), K14 VSS (power)
part Y pins: L10 VSS (power), M20 VDD (power)
part Z pins: L11 VSS (power), T20 VDD (power)
part 27 pins: K4 VDD (power), L12 VSS (power)
part 28 pins: L13 VSS (power), P4 VDD (power)
part 29 pins: L14 VSS (power), V4 VDD (power)
part 30 pins: D6 VDD (power), P10 VSS (power)
part 31 pins: B14 VDD (power), N13 VSS (power)
part 32 pins: AC17 VDD (power), N14 VSS (power)
part 33 pins: A3 VSS (power), AB18 VDD (power)
part 34 pins: D14 VDD (power), M10 VSS (power)
part 35 pins: M11 VSS (power), Y10 VDD (power)
part 36 pins: M12 VSS (power), Y18 VDD (power)
part 37 pins: F20 VDD (power), M13 VSS (power)
part 38 pins: K20 VDD (power), M14 VSS (power)
part 39 pins: P13 VSS (power), P20 VDD (power)
part 40 pins: A1 VDD (power), A2 VSS (power)
part 41 pins: C3 VDD (power), N12 VSS (power)
part 42 pins: AA18 TDO (out), AA19 !TRST, AB19 TCK, AB20 TMS, AC18 !BRKOUT (out), AC19 TDI, AC20 !BRKIN, Y19 !OCDSE
part 43 pins: A9 VSSA@0 (power), AA20 XTAL4, AA21 VSS@0 (power), AA22 VDD@1 (power), AA23 VSS@1 (power), AB21 XTAL3, AB23 TESTMODE, AC21 VDD@0 (power), AC22 XTAL2, AC23 XTAL1, B8 VAGND@0 (power), C8 VAREF@0 (power), D9 VDDA@0 (power), G2 VAREF@1 (power), G3 VSSA@1 (power), G4 VAGND@1 (power), H1 VDDA@1 (power), R1 CLKOUT (out), T1 CLKIN, V21 CLKSEL0, V22 CLKSEL2, V23 CLKSEL1, W20 HDRST, W21 CFG2, W22 BYPASS, W23 CFG3, Y20 NMI, Y21 PORST, Y22 CFG1, Y23 CFG0
part 44 pins: P11 VSS (power)
part 45 pins: P12 VSS (power)
part 46 pins: P14 VSS (power)
part 47 pins: N10 VSS (power)
part 48 pins: N11 VSS (power)

## TC1920
designator IC?, comment 32bit Single Chip Microcontroller   Source: http://www.infineon.com .. TC1920_umsu_V12.pdf
OC_FARNELL: unknown; OC_NEWARK: unknown
footprint P-LBGA-260
part A pins: T14 !BRKOUT (out), T15 TMS, T16 TCK, U15 !BRKIN, U16 TDO (out), U17 !TRST, V16 !OCDSE, V17 TDI
part B pins: H17 14, H18 13, J15 12, J16 15, J17 11, J18 9, K16 10, K17 7, K18 8, L15 0, L16 5, L17 4, L18 6, M16 1, M17 2, M18 3
part C pins: C18 11, D17 13, D18 10, E16 14, E17 8, E18 4, F15 15, F16 12, F17 5, F18 3, G15 9, G16 7, G17 1, G18 0, H15 6, H16 2
part D pins: B1 D31, C1 D27, C2 D30, D1 D26, D2 D28, D3 D29, E1 D23, E2 D24, E3 D25, E4 D18, F1 D19, F2 D20, F3 D22, F4 D21, G1 D13, G2 D14, G3 D15, G4 D17, H1 D10, H2 D11, H3 D12, H4 D16, J1 D8, J2 D9, J3 D7, K1 D6, K2 D5, K3 D2, K4 D3, L1 D4, L2 D1, L3 D0
part E pins: P16 2, P17 7, R16 1, R17 5, T17 3, T18 6, U18 4, V18 0
part F pins: M15 7, N15 6, N16 1, N17 2, N18 5, P15 3, P18 4, R18 0
part G pins: M3 A20 (out), M4 A22 (out), N1 A23 (out), N2 A18 (out), N3 A15 (out), N4 A21 (out), P1 A17 (out), P2 A14 (out), P3 A11 (out), P4 A19 (out), R1 A16 (out), R2 A13 (out), R3 A8 (out), R5 A12 (out), T1 A10 (out), T2 A9 (out), T3 A6 (out), T4 A4 (out), T5 A1 (out), U1 A7 (out), U2 A5 (out), U3 A3 (out), V1 A2 (out), V2 A0 (out)
part H pins: R11 9, R12 8, R13 5, R14 3, T11 12, T12 7, T13 2, U11 14, U12 11, U13 6, U14 1, V11 15, V12 13, V13 10, V14 4, V15 0
part I pins: A1 GND@0 (power), A16 1V8@0 (power), B2 GND@1 (power), B3 1V8@2 (power), B16 1V8@1 (power), C3 GND@2 (power), C4 1V8@3 (power), D4 GND@3 (power), D5 1V8@4 (power), D6 GND@4 (power), G7 3V3@2 (power), G8 3V3@3 (power), G9 GND@6 (power), G10 GND@5 (power), G11 3V3@0 (power), G12 3V3@1 (power), H7 3V3@5 (power), H8 GND@9 (power), H9 GND@10 (power), H10 GND@7 (power), H11 GND@8 (power), H12 3V3@4 (power), J4 1V8@5 (power), J7 GND@14 (power), J8 GND@15 (power), J9 GND@16 (power), J10 GND@11 (power), J11 GND@12 (power), J12 GND@13 (power), K7 GND@20 (power), K8 GND@21 (power), K9 GND@22 (power), K10 GND@17 (power), K11 GND@18 (power), K12 GND@19 (power), L4 1V8@6 (power), L7 3V3@7 (power), L8 GND@25 (power), L9 GND@26 (power), L10 GND@23 (power), L11 GND@24 (power), L12 3V3@6 (power), M7 3V3@10 (power), M8 3V3@11 (power), M9 GND@28 (power), M10 GND@27 (power), M11 3V3@8 (power), M12 3V3@9 (power), R4 1V8@7 (power)
part J pins: A2 VDDR@0 (power), A5 VSSP_OSC@1 (power), A8 VSS_GUARD@1 (power), A12 VSSA_ADC (power), B9 VSS_PLL (power), B11 VAGND_ADC (power), B12 VSSP_ADC@0 (power), B13 VREF_COD (power), C5 VDDR@1 (power), C7 VDDP_OSC@1 (power), C8 VSS_GUARD@2 (power), C9 VDD_GUARD (power), C12 VDDP_ADC (power), C13 VGND_COD (power), C15 VSSP_COD@0 (power), D8 VSSP_OSC@0 (power), D9 VDD_PLL (power), D10 VSSP_ADC@2 (power), D11 VAREF_ADC (power), D12 VSSP_ADC@1 (power), D15 VSSA_COD@0 (power), E15 VDDP_COD@0 (power), R15 VDD_SB (power)
part K pins: A3 TM_CTRL1, A4 XTAL3, A6 XTAL1, A7 VDD_OSC1 (power), A9 P4.5/AIN5, A10 P4.3/AIN3, A11 P4.1/AIN1, A13 AI0-, A14 AI1-, A15 AO0+, A17 CEXT, A18 NMI, B4 TM_CTRL0, B5 XTAL4, B6 VSS_OSC (power), B7 XTAL2, B8 PLLCTRL_A0, B10 P4.2/AIN2, B14 AO1-, B15 AO0-, B17 BYPASS, B18 PORST, C6 VDD_OSC2 (power), C10 P4.4/AIN4, C11 P4.0/AIN0, C14 AO1+, C16 CODEC_DIS, C17 CLKOUT (out), D7 VDDP_OSC (power), D13 AI0+, D14 AI1+, D16 HRST, K15 /SCAN_MODE, M1 EBUCLK, M2 BFCLK0, R6 /BC1, R7 CS2, R8 CS1, R9 CS0, R10 /ADV (power), T6 /CAS, T7 /BC0, T8 /WAIT, T9 CSOVL, T10 ALE, U4 /RD, U5 /RAS, U6 /BC3, U7 CS6, U8 /BAA, U9 /CSGLB, U10 CKE, V3 /WR, V4 /BC2, V5 CS5, V6 CS4, V7 CS3, V8 CSEMU, V9 /CMDELAY, V10 MR/W

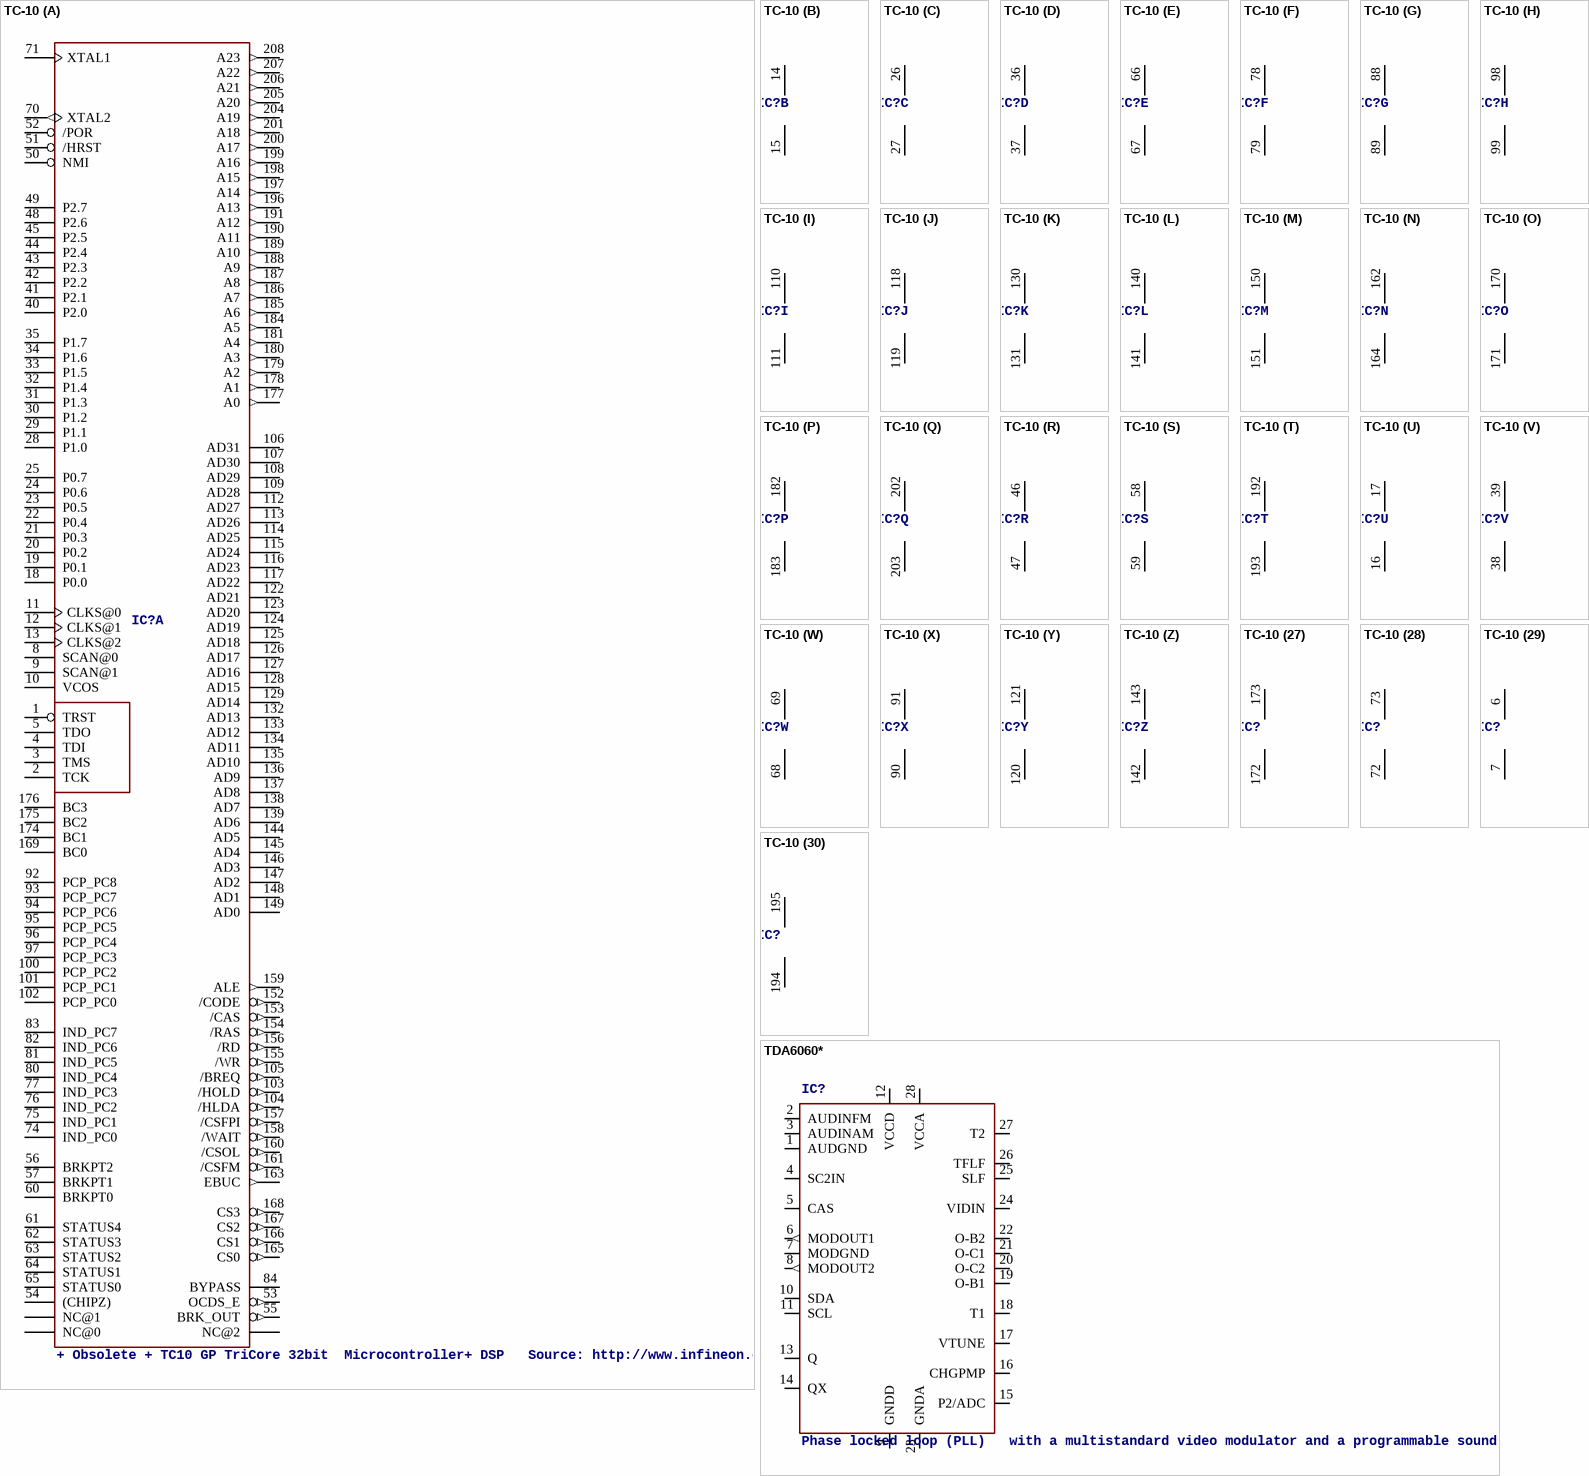
[diagram p27: symbols TC-10 to TDA6060*]

## TC-10
designator IC?, comment + Obsolete + TC10 GP TriCore 32bit  Microcontroller+ DSP   Source: http://www.infineon.com ..
OC_FARNELL: unknown; OC_NEWARK: unknown
footprint FQFP208-2
part A pins: 1 TRST, 2 TCK, 3 TMS, 4 TDI, 5 TDO, 8 SCAN@0, 9 SCAN@1, 10 VCOS, 11 CLKS@0, 12 CLKS@1, 13 CLKS@2, 18 P0.0, 19 P0.1, 20 P0.2, 21 P0.3, 22 P0.4, 23 P0.5, 24 P0.6, 25 P0.7, 28 P1.0, 29 P1.1, 30 P1.2, 31 P1.3, 32 P1.4, 33 P1.5, 34 P1.6, 35 P1.7, 40 P2.0, 41 P2.1, 42 P2.2, 43 P2.3, 44 P2.4, 45 P2.5, 48 P2.6, 49 P2.7, 50 NMI, 51 /HRST, 52 /POR, 53 OCDS_E (out), 54 (CHIPZ), 55 BRK_OUT (out), 56 BRKPT2, 57 BRKPT1, 60 BRKPT0, 61 STATUS4, 62 STATUS3, 63 STATUS2, 64 STATUS1, 65 STATUS0, 70 XTAL2 (out), 71 XTAL1, 74 IND_PC0, 75 IND_PC1, 76 IND_PC2, 77 IND_PC3, 80 IND_PC4, 81 IND_PC5, 82 IND_PC6, 83 IND_PC7, 84 BYPASS, 85 NC@0, 86 NC@1, 87 NC@2, 92 PCP_PC8, 93 PCP_PC7, 94 PCP_PC6, 95 PCP_PC5, 96 PCP_PC4, 97 PCP_PC3, 100 PCP_PC2, 101 PCP_PC1, 102 PCP_PC0, 103 /HOLD (out), 104 /HLDA (out), 105 /BREQ (out), 106 AD31, 107 AD30, 108 AD29, 109 AD28, 112 AD27, 113 AD26, 114 AD25, 115 AD24, 116 AD23, 117 AD22, 122 AD21, 123 AD20, 124 AD19, 125 AD18, 126 AD17, 127 AD16, 128 AD15, 129 AD14, 132 AD13, 133 AD12, 134 AD11, 135 AD10, 136 AD9, 137 AD8, 138 AD7, 139 AD6, 144 AD5, 145 AD4, 146 AD3, 147 AD2, 148 AD1, 149 AD0, 152 /CODE (out), 153 /CAS (out), 154 /RAS (out), 155 /WR (out), 156 /RD (out), 157 /CSFPI (out), 158 /WAIT (out), 159 ALE (out), 160 /CSOL (out), 161 /CSFM (out), 163 EBUC (out), 165 CS0 (out), 166 CS1 (out), 167 CS2 (out), 168 CS3 (out), 169 BC0, 174 BC1, 175 BC2, 176 BC3, 177 A0 (out), 178 A1 (out), 179 A2 (out), 180 A3 (out), 181 A4 (out), 184 A5 (out), 185 A6 (out), 186 A7 (out), 187 A8 (out), 188 A9 (out), 189 A10 (out), 190 A11 (out), 191 A12 (out), 196 A13 (out), 197 A14 (out), 198 A15 (out), 199 A16 (out), 200 A17 (out), 201 A18 (out), 204 A19 (out), 205 A20 (out), 206 A21 (out), 207 A22 (out), 208 A23 (out)
part B pins: 14 VDDE (power), 15 VSSE (power)
part C pins: 26 VDDE (power), 27 VSSE (power)
part D pins: 36 VDDE (power), 37 VSSE (power)
part E pins: 66 VDDE (power), 67 VSSE (power)
part F pins: 78 VDDE (power), 79 VSSE (power)
part G pins: 88 VDDE (power), 89 VSSE (power)
part H pins: 98 VDDE (power), 99 VSSE (power)
part I pins: 110 VDDE (power), 111 VSSE (power)
part J pins: 118 VDDE (power), 119 VSSE (power)
part K pins: 130 VDDE (power), 131 VSSE (power)
part L pins: 140 VDDE (power), 141 VSSE (power)
part M pins: 150 VDDE (power), 151 VSSE (power)
part N pins: 162 VDDE (power), 164 VSSE (power)
part O pins: 170 VDDE (power), 171 VSSE (power)
part P pins: 182 VDDE (power), 183 VSSE (power)
part Q pins: 202 VDDE (power), 203 VSSE (power)
part R pins: 46 VDDE (power), 47 VSSE (power)
part S pins: 58 VDDE (power), 59 VSSE (power)
part T pins: 192 VDDE (power), 193 VSSE (power)
part U pins: 16 VSS (power), 17 VDD (power)
part V pins: 38 VSS (power), 39 VDD (power)
part W pins: 68 VSS (power), 69 VDD (power)
part X pins: 90 VSS (power), 91 VDD (power)
part Y pins: 120 VSS (power), 121 VDD (power)
part Z pins: 142 VSS (power), 143 VDD (power)
part 27 pins: 172 VSS (power), 173 VDD (power)
part 28 pins: 72 VSSP (power), 73 VDDP (power)
part 29 pins: 6 VDDE (power), 7 VSSE (power)
part 30 pins: 194 VSS (power), 195 VDD (power)

## TDA6060*
designator IC?, comment Phase locked loop (PLL)   with a multistandard video modulator and a programmable sound FM and AM modulator
OC_FARNELL: unknown; OC_NEWARK: unknown
footprint P-TSSOP28-1
pins: 1 AUDGND (power), 2 AUDINFM, 3 AUDINAM, 4 SC2IN, 5 CAS, 6 MODOUT1 (out), 7 MODGND (power), 8 MODOUT2 (out), 9 GNDD (power), 10 SDA, 11 SCL, 12 VCCD (power), 13 Q, 14 QX, 15 P2/ADC, 16 CHGPMP, 17 VTUNE, 18 T1, 19 O-B1, 20 O-C2, 21 O-C1, 22 O-B2, 23 GNDA (power), 24 VIDIN, 25 SLF, 26 TFLF, 27 T2, 28 VCCA (power)

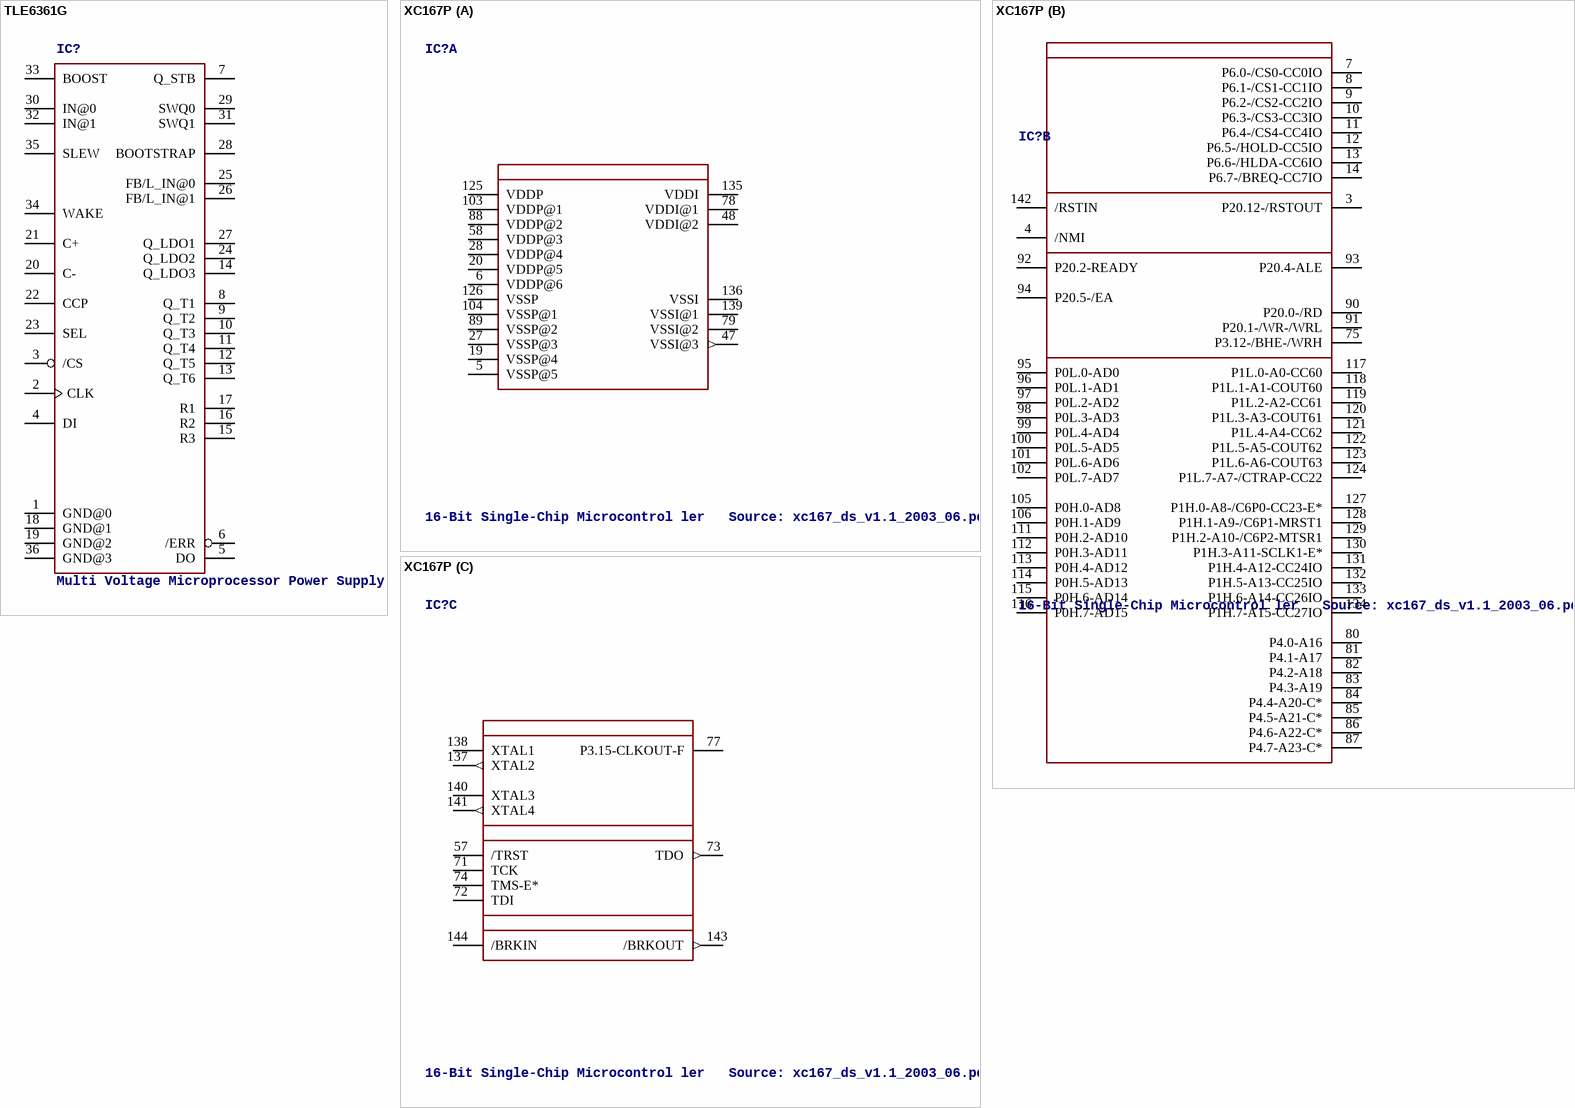
[diagram p28: symbols TLE6361G to XC167P]

## TLE6361G
designator IC?, comment Multi Voltage Microprocessor Power Supply
OC_FARNELL: unknown; OC_NEWARK: unknown
footprint DSO36
pins: 1 GND@0 (power), 2 CLK, 3 /CS, 4 DI, 5 DO, 6 /ERR, 7 Q_STB, 8 Q_T1, 9 Q_T2, 10 Q_T3, 11 Q_T4, 12 Q_T5, 13 Q_T6, 14 Q_LDO3, 15 R3, 16 R2, 17 R1, 18 GND@1 (power), 19 GND@2 (power), 20 C-, 21 C+, 22 CCP, 23 SEL, 24 Q_LDO2, 25 FB/L_IN@0, 26 FB/L_IN@1, 27 Q_LDO1, 28 BOOTSTRAP, 29 SWQ0, 30 IN@0, 31 SWQ1, 32 IN@1, 33 BOOST, 34 WAKE, 35 SLEW, 36 GND@3 (power)

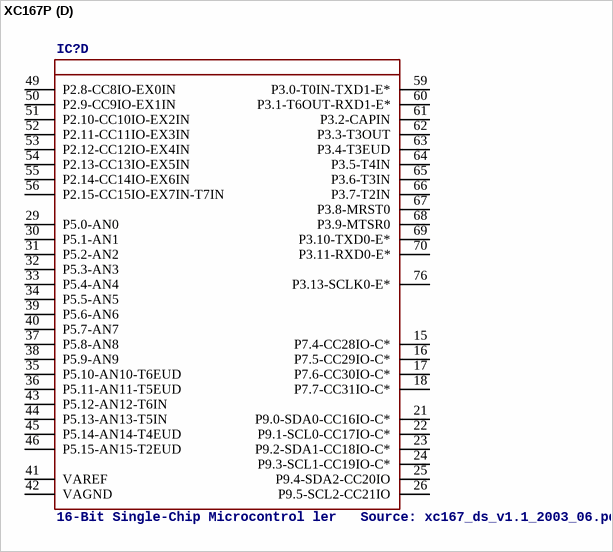
[diagram p29: symbol XC167P]

## XC167P
designator IC?, comment 16-Bit Single-Chip Microcontrol ler   Source: xc167_ds_v1.1_2003_06.pdf
OC_FARNELL: unknown; OC_NEWARK: unknown
footprint P-TQFP-144-19
part A pins: 5 VSSP@5 (power), 6 VDDP@6 (power), 19 VSSP@4 (power), 20 VDDP@5 (power), 27 VSSP@3 (power), 28 VDDP@4 (power), 47 VSSI@3 (out), 48 VDDI@2 (power), 58 VDDP@3 (power), 78 VDDI@1 (power), 79 VSSI@2 (power), 88 VDDP@2 (power), 89 VSSP@2 (power), 103 VDDP@1 (power), 104 VSSP@1 (power), 125 VDDP (power), 126 VSSP (power), 135 VDDI (power), 136 VSSI (power), 139 VSSI@1 (power)
part B pins: 3 P20.12-/RSTOUT, 4 /NMI, 7 P6.0-/CS0-CC0IO, 8 P6.1-/CS1-CC1IO, 9 P6.2-/CS2-CC2IO, 10 P6.3-/CS3-CC3IO, 11 P6.4-/CS4-CC4IO, 12 P6.5-/HOLD-CC5IO, 13 P6.6-/HLDA-CC6IO, 14 P6.7-/BREQ-CC7IO, 75 P3.12-/BHE-/WRH, 80 P4.0-A16, 81 P4.1-A17, 82 P4.2-A18, 83 P4.3-A19, 84 P4.4-A20-C*, 85 P4.5-A21-C*, 86 P4.6-A22-C*, 87 P4.7-A23-C*, 90 P20.0-/RD, 91 P20.1-/WR-/WRL, 92 P20.2-READY, 93 P20.4-ALE, 94 P20.5-/EA, 95 P0L.0-AD0, 96 P0L.1-AD1, 97 P0L.2-AD2, 98 P0L.3-AD3, 99 P0L.4-AD4, 100 P0L.5-AD5, 101 P0L.6-AD6, 102 P0L.7-AD7, 105 P0H.0-AD8, 106 P0H.1-AD9, 111 P0H.2-AD10, 112 P0H.3-AD11, 113 P0H.4-AD12, 114 P0H.5-AD13, 115 P0H.6-AD14, 116 P0H.7-AD15, 117 P1L.0-A0-CC60, 118 P1L.1-A1-COUT60, 119 P1L.2-A2-CC61, 120 P1L.3-A3-COUT61, 121 P1L.4-A4-CC62, 122 P1L.5-A5-COUT62, 123 P1L.6-A6-COUT63, 124 P1L.7-A7-/CTRAP-CC22, 127 P1H.0-A8-/C6P0-CC23-E*, 128 P1H.1-A9-/C6P1-MRST1, 129 P1H.2-A10-/C6P2-MTSR1, 130 P1H.3-A11-SCLK1-E*, 131 P1H.4-A12-CC24IO, 132 P1H.5-A13-CC25IO, 133 P1H.6-A14-CC26IO, 134 P1H.7-A15-CC27IO, 142 /RSTIN
part C pins: 57 /TRST, 71 TCK, 72 TDI, 73 TDO (out), 74 TMS-E*, 77 P3.15-CLKOUT-F, 137 XTAL2 (out), 138 XTAL1, 140 XTAL3, 141 XTAL4 (out), 143 /BRKOUT (out), 144 /BRKIN
part D pins: 15 P7.4-CC28IO-C*, 16 P7.5-CC29IO-C*, 17 P7.6-CC30IO-C*, 18 P7.7-CC31IO-C*, 21 P9.0-SDA0-CC16IO-C*, 22 P9.1-SCL0-CC17IO-C*, 23 P9.2-SDA1-CC18IO-C*, 24 P9.3-SCL1-CC19IO-C*, 25 P9.4-SDA2-CC20IO, 26 P9.5-SCL2-CC21IO, 29 P5.0-AN0, 30 P5.1-AN1, 31 P5.2-AN2, 32 P5.3-AN3, 33 P5.4-AN4, 34 P5.5-AN5, 35 P5.10-AN10-T6EUD, 36 P5.11-AN11-T5EUD, 37 P5.8-AN8, 38 P5.9-AN9, 39 P5.6-AN6, 40 P5.7-AN7, 41 VAREF, 42 VAGND, 43 P5.12-AN12-T6IN, 44 P5.13-AN13-T5IN, 45 P5.14-AN14-T4EUD, 46 P5.15-AN15-T2EUD, 49 P2.8-CC8IO-EX0IN, 50 P2.9-CC9IO-EX1IN, 51 P2.10-CC10IO-EX2IN, 52 P2.11-CC11IO-EX3IN, 53 P2.12-CC12IO-EX4IN, 54 P2.13-CC13IO-EX5IN, 55 P2.14-CC14IO-EX6IN, 56 P2.15-CC15IO-EX7IN-T7IN, 59 P3.0-T0IN-TXD1-E*, 60 P3.1-T6OUT-RXD1-E*, 61 P3.2-CAPIN, 62 P3.3-T3OUT, 63 P3.4-T3EUD, 64 P3.5-T4IN, 65 P3.6-T3IN, 66 P3.7-T2IN, 67 P3.8-MRST0, 68 P3.9-MTSR0, 69 P3.10-TXD0-E*, 70 P3.11-RXD0-E*, 76 P3.13-SCLK0-E*